# Altium schematic symbol library 轻触开关.SchLib: 1 symbol
Pins are listed as number, name and electrical type; pins without a type are passive.

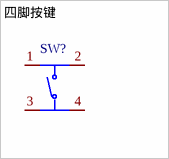
[diagram p0: symbol 四脚按键]

## 四脚按键
designator SW?
pins: 1, 2, 3, 4